# Altium footprint library 5mm_LED_Red.PcbLib: 1 footprints
Each footprint in its own frame and in the unit in brackets; x right, y up, seen from the top. Pads: shape width x height; smd on the part's side, far side on the other; paste and mask are expansions set on the pad; w line width, h text height; cw(c..) or ccw(c..) is an arc to the next point about the centre after c.
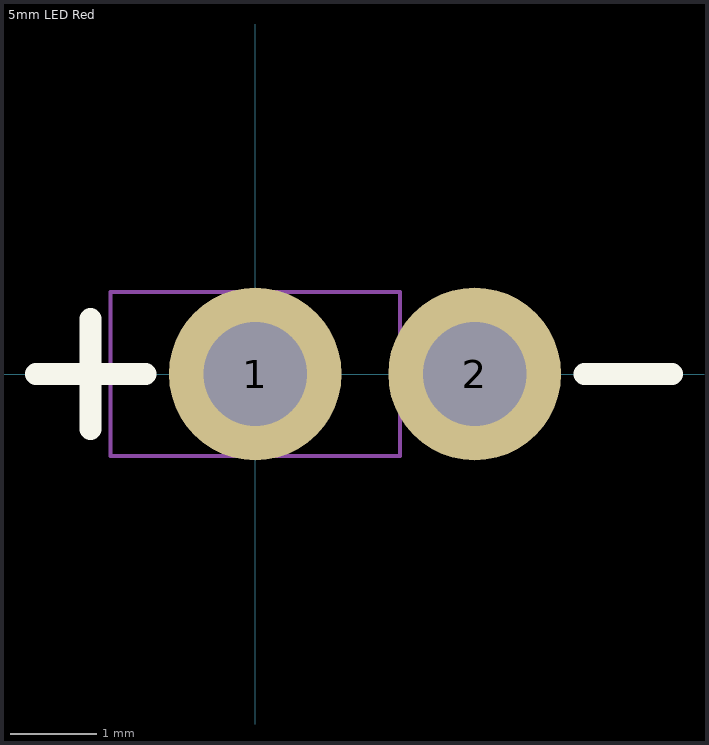
[diagram p0: the footprint, top view; thin cyan lines are the x and y axes]

## 5mm LED Red [mm]
pads (2):
  round 2 hole 1.2: 1(0,0) 2(2.54,0)
Top Overlay:
  lines w0.254: -2.54,0 -1.27,0 ; -1.905,-0.635 -1.905,0.635 ; 3.81,0 4.826,0
  text ".Designator" at -4.318,1.905 h1.52
Mechanical 20:
  lines w0.05: -1.675,-0.95 -1.675,0.95 1.675,0.95 1.675,-0.95 -1.675,-0.95